# Altium footprint library ZJUNlict_footprint.PcbLib: 113 footprints (part 5 of 8)
Each footprint in its own frame and in the unit in brackets; x right, y up, seen from the top. Pads: shape width x height; smd on the part's side, far side on the other; paste and mask are expansions set on the pad; w line width, h text height; cw(c..) or ccw(c..) is an arc to the next point about the centre after c.
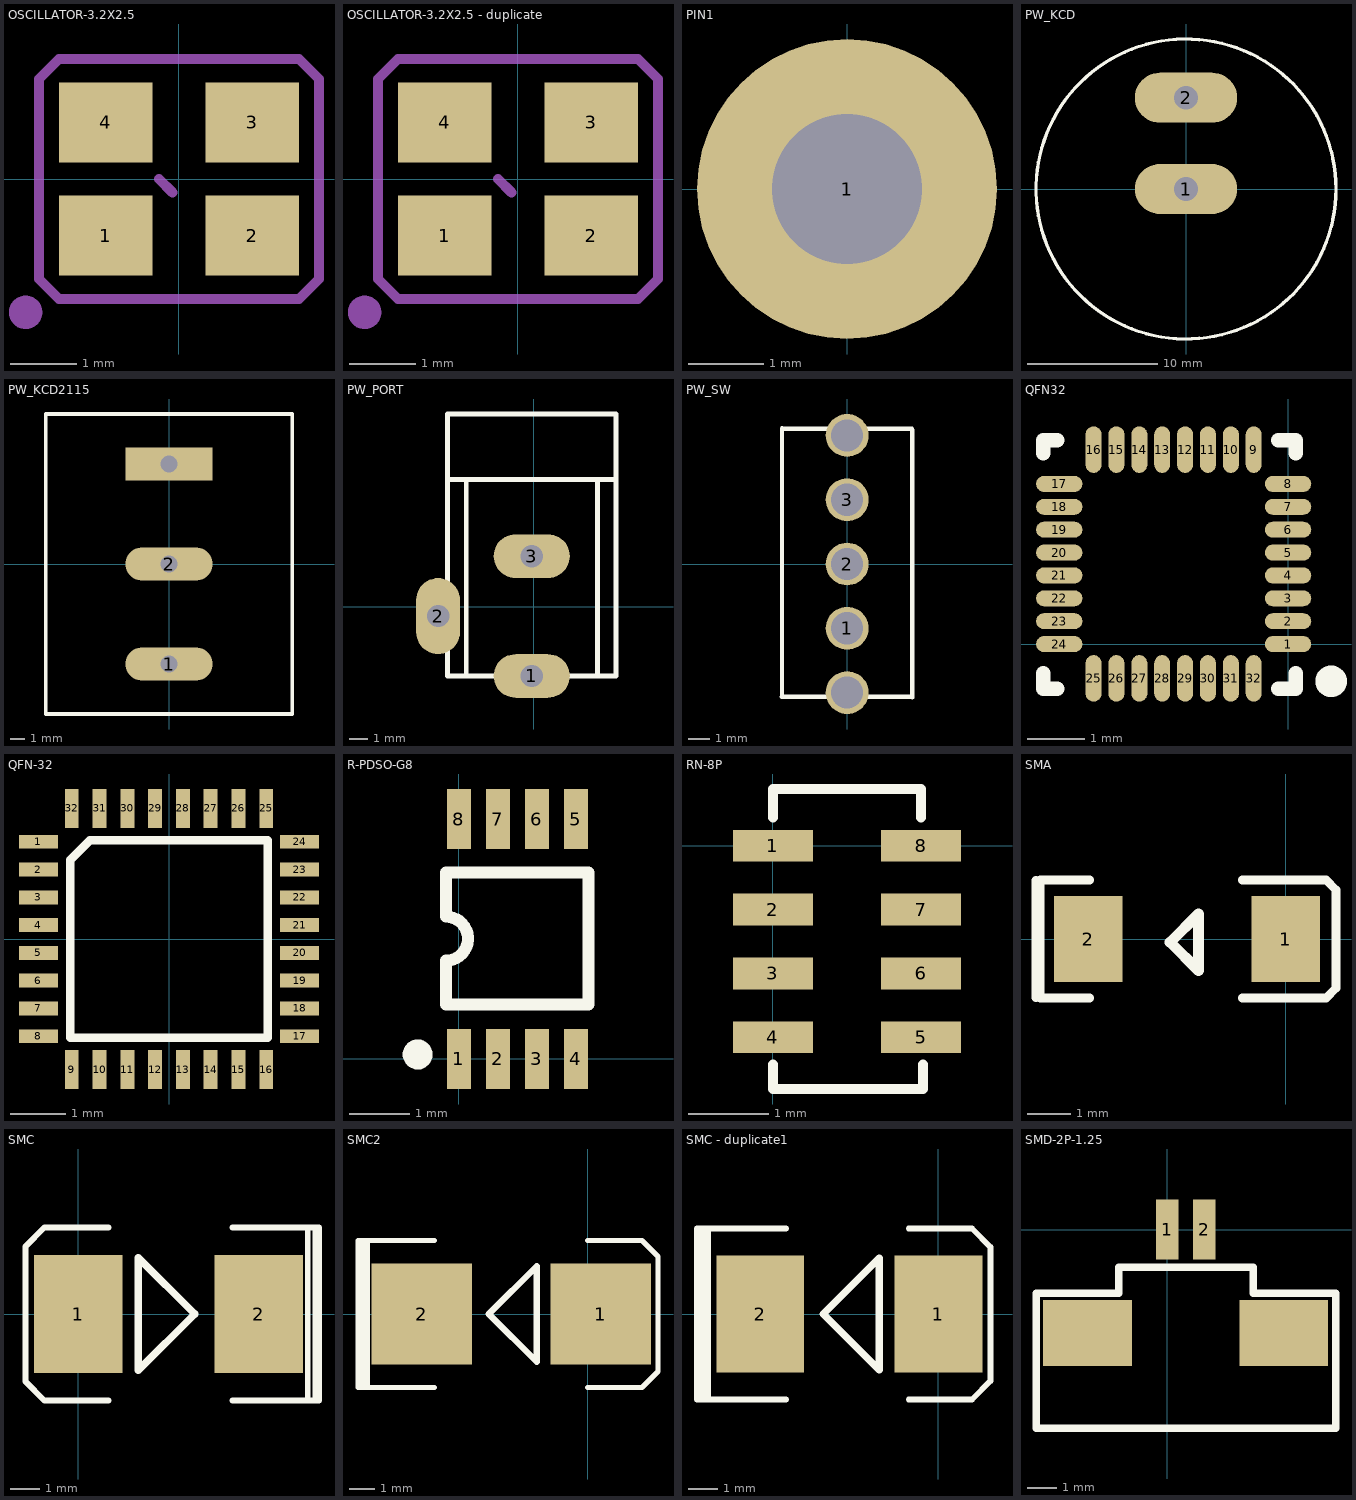
[diagram p4: the footprints below, top view; thin cyan lines are the x and y axes]

## OSCILLATOR-3.2X2.5 [mm] "OSCILLATOR-3.2X2.5"
pads (4):
  rect 1.4x1.2 smd: 1(-1.1,-0.85) 2(1.1,-0.85) 3(1.1,0.85) 4(-1.1,0.85)
Mechanical 2:
  circle w0.3: c-2.3,-2 r0.1
  lines w0.15: -0.3,0 -0.1,-0.2 ; -2.1,-1.5 -2.1,1.5 -1.8,1.8 1.8,1.8 2.1,1.5 2.1,-1.5 1.8,-1.8 -1.8,-1.8 -2.1,-1.5
Mechanical 16:
  lines w0.001: -2.1,-1.5 -2.1,1.5 -1.8,1.8 1.8,1.8 2.1,1.5 2.1,-1.5 1.8,-1.8 -1.8,-1.8 -2.1,-1.5

## OSCILLATOR-3.2X2.5 - duplicate [mm] "OSCILLATOR-3.2X2.5"
pads (4):
  rect 1.4x1.2 smd: 1(-1.1,-0.85) 2(1.1,-0.85) 3(1.1,0.85) 4(-1.1,0.85)
Mechanical 2:
  circle w0.3: c-2.3,-2 r0.1
  lines w0.15: -0.3,0 -0.1,-0.2 ; -2.1,-1.5 -1.8,-1.8 1.8,-1.8 2.1,-1.5 2.1,1.5 1.8,1.8 -1.8,1.8 -2.1,1.5 -2.1,-1.5
Mechanical 16:
  lines w0.001: -2.1,-1.5 -1.8,-1.8 1.8,-1.8 2.1,-1.5 2.1,1.5 1.8,1.8 -1.8,1.8 -2.1,1.5 -2.1,-1.5

## PIN1 [mm]
pads (1):
  round 4 hole 2: 1(0,0)

## PW_KCD [mm]
pads (2):
  oval 7.85x3.83 hole 1.83 square: 1(0,0) 2(0,7)
Top Overlay:
  circle w0.254: c0,0 r11.5

## PW_KCD2115 [mil]
pads (3):
  oval 240x92 hole 47 square: 1(0,-275.59) 2(0,0)
  rect 240x92 hole 47 square: ""(0,275.59)
Top Overlay:
  lines w10: -340,-413.39 340,-413.39 340,413.39 -340,413.39 -340,-413.39

## PW_PORT [mil]
pads (3):
  oval 160x92 hole 47 square: 1(-4,-146) 3(-4,106)
  oval 92x160 hole 47 square: 2(-201,-20)
Top Overlay:
  lines w10: -181,267 173,267 ; -142,-146 -142,267 ; 134,-146 134,267 ; -181,-146 -181,405 173,405 173,-146 -181,-146

## PW_SW [mm]
pads (5):
  round 2 hole 1.5: 1(0,-3) 2(0,0) 3(0,3) ""(0,-6) ""(0,6)
Top Overlay:
  lines w0.203: -3.06,-6.198 3.011,-6.198 ; -3.043,-6.164 -3.043,6.333 ; -3.043,6.316 3.028,6.316 ; 3.045,-6.232 3.045,6.265

## QFN32 [mil]
pads (32):
  oval 32x11 smd mask+4: 1(0,0) 2(0,15.75) 3(0,31.5) 4(0,47.24) 5(0,62.99) 6(0,78.74) 7(0,94.49) 8(0,110.24) 17(-157.48,110.24) 18(-157.48,94.49) 19(-157.48,78.74) 20(-157.48,62.99) 21(-157.48,47.24) 22(-157.48,31.5) 23(-157.48,15.75) 24(-157.48,0)
  oval 11x32 smd mask+4: 9(-23.62,133.86) 10(-39.37,133.86) 11(-55.12,133.86) 12(-70.87,133.86) 13(-86.61,133.86) 14(-102.36,133.86) 15(-118.11,133.86) 16(-133.86,133.86) 25(-133.86,-23.62) 26(-118.11,-23.62) 27(-102.36,-23.62) 28(-86.61,-23.62) 29(-70.87,-23.62) 30(-55.12,-23.62) 31(-39.37,-23.62) 32(-23.62,-23.62)
Top Overlay:
  circle w15: c29.64,-25.62 r3.35
  lines w10: -168.36,-20.12 -168.36,-30.62 -158.86,-30.62 ; -168.36,131.38 -168.36,140.38 -158.86,140.38 ; -6.86,-30.62 5.14,-30.62 5.14,-20.12 ; -6.86,140.38 5.14,140.38 5.14,131.38

## QFN-32 [mm]
pads (32):
  rect 0.7x0.25 smd: 1(-2.35,1.75) 2(-2.35,1.25) 3(-2.35,0.75) 4(-2.35,0.25) 5(-2.35,-0.25) 6(-2.35,-0.75) 7(-2.35,-1.25) 8(-2.35,-1.75) 17(2.35,-1.75) 18(2.35,-1.25) 19(2.35,-0.75) 20(2.35,-0.25) 21(2.35,0.25) 22(2.35,0.75) 23(2.35,1.25) 24(2.35,1.75)
  rect 0.25x0.7 smd: 9(-1.75,-2.35) 10(-1.25,-2.35) 11(-0.75,-2.35) 12(-0.25,-2.35) 13(0.25,-2.35) 14(0.75,-2.35) 15(1.25,-2.35) 16(1.75,-2.35) 25(1.75,2.35) 26(1.25,2.35) 27(0.75,2.35) 28(0.25,2.35) 29(-0.25,2.35) 30(-0.75,2.35) 31(-1.25,2.35) 32(-1.75,2.35)
Top Overlay:
  lines w0.152: -1.778,-1.778 1.778,-1.778 1.778,1.778 -1.422,1.778 -1.778,1.422 -1.778,-1.778

## R-PDSO-G8 [mm]
height 1.3
pads (8):
  rect 0.4x1 smd: 1(0,0) 2(0.65,0) 3(1.3,0) 4(1.95,0) 5(1.95,4) 6(1.3,4) 7(0.65,4) 8(0,4)
Top Overlay:
  circle w0.25: c-0.686,0.076 r0.125
  lines w0.2: -0.214,1.64 ccw(c-0.214,2.007) -0.214,2.373 -0.214,3.107 2.159,3.107 2.159,0.907 -0.214,0.907 -0.214,1.64

## RN-8P [mm]
height 4.57
pads (8):
  rect 1x0.4 smd: 1(0,0) 2(0,-0.8) 3(0,-1.6) 4(0,-2.4) 5(1.858,-2.4) 6(1.858,-1.6) 7(1.858,-0.8) 8(1.858,0)
Top Overlay:
  lines w0.127: 0,-2.743 0,-2.896 0,-3.048 1.88,-3.048 1.88,-2.896 1.88,-2.743 ; 0,0.356 0,0.533 0,0.711 1.854,0.711 1.854,0.533 1.854,0.356

## SMA [mm]
pads (2):
  rect 1.6x2 smd: 1(0,0) 2(-4.6,0)
Top Overlay:
  lines w0.2: -5.817,-1.372 -5.817,1.372 ; -5.715,-1.372 -5.715,1.372
  lines w0.203: -5.715,-1.372 -4.572,-1.372 ; -5.715,1.372 -4.572,1.372 ; -1.016,-1.372 0.94,-1.372 1.168,-1.143 1.168,1.143 0.94,1.372 -1.016,1.372
  lines w0.254: -2.692,-0.076 -2.032,0.584 -2.032,-0.737 -2.692,-0.076

## SMC [mm]
height 1.45
pads (2):
  rect 3x4 smd: 1(0,0) 2(6.096,0)
Top Overlay:
  lines w0.2: 7.747,-2.921 7.747,2.921 ; 8.001,-2.921 8.001,2.921 ; 8.128,-2.921 8.128,2.921
  lines w0.203: 1.016,-2.921 -1.143,-2.921 -1.778,-2.286 -1.778,2.286 -1.143,2.921 1.016,2.921 ; 5.207,-2.921 8.128,-2.921 ; 5.207,2.921 8.128,2.921
  lines w0.254: 2.032,-1.905 2.032,1.905 3.937,0 2.032,-1.905

## SMC2 [mm]
pads (2):
  rect 4x4 smd: 1(0.508,0) 2(-6.604,0)
Top Overlay:
  lines w0.2: -9.144,-2.921 -9.144,2.921 ; -9.017,-2.921 -9.017,2.921 ; -8.89,-2.921 -8.89,2.921 ; -8.763,-2.921 -8.763,2.921
  lines w0.203: -9.144,-2.921 -6.096,-2.921 ; -9.144,2.921 -6.096,2.921 ; 0,-2.921 2.159,-2.921 2.794,-2.286 2.794,2.286 2.159,2.921 0,2.921
  lines w0.254: -3.937,0 -2.032,1.905 -2.032,-1.905 -3.937,0

## SMC - duplicate1 [mm]
pads (2):
  rect 3x4 smd: 1(0,0) 2(-6.096,0)
Top Overlay:
  lines w0.2: -8.255,-2.921 -8.255,2.921 ; -8.128,-2.921 -8.128,2.921 ; -8.001,-2.921 -8.001,2.921 ; -7.874,-2.921 -7.874,2.921
  lines w0.203: -8.255,-2.921 -5.207,-2.921 ; -8.255,2.921 -5.207,2.921 ; -1.016,-2.921 1.143,-2.921 1.778,-2.286 1.778,2.286 1.143,2.921 -1.016,2.921
  lines w0.254: -3.937,0 -2.032,-1.905 -2.032,1.905 -3.937,0

## SMD-2P-1.25 [mm]
height 1.45
pads (4):
  rect 0.762x2.032 smd: 1(0,0) 2(1.25,0)
  rect 3x2.25 smd: ""(-2.7,-3.5) ""(3.95,-3.5)
Top Overlay:
  lines w0.254: -4.445,-6.731 -4.445,-2.159 -1.651,-2.159 -1.651,-1.27 2.921,-1.27 2.921,-2.159 5.715,-2.159 5.715,-6.731 -4.445,-6.731